# Altium schematic symbol library SCH - ANNOTATION - LOGO UZ.SchLib: 1 symbol
Pins are listed as number, name and electrical type; pins without a type are passive.

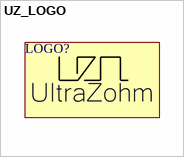
[diagram p0: symbol UZ_LOGO]

## UZ_LOGO
designator LOGO?  (no BOM)
*